# EAGLE library part IF_ETH_PHY_YT8531C-CA (library !GPLIB_ACTIVE)
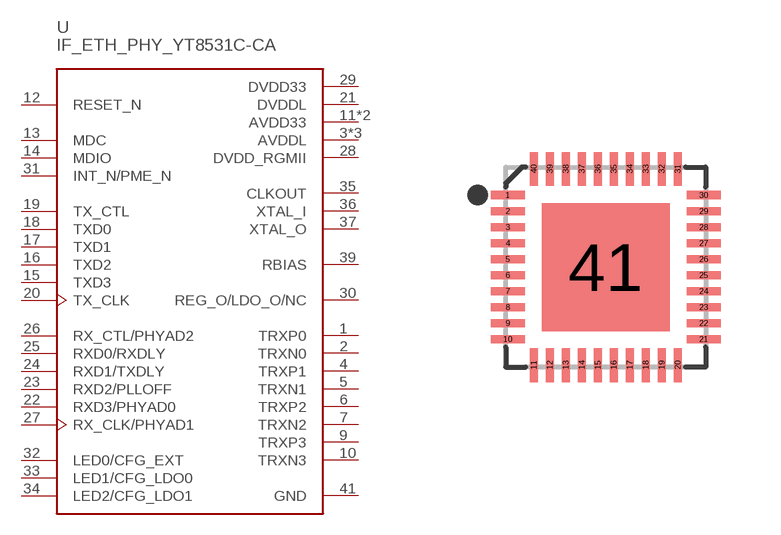
[diagram p23: symbol with the pads of QFN40P500X500X75-41N; footprint QFN40P500X500X75-41N]

Designator prefix U

## IF_ETH_PHY_YT8531C-CA  [QFN40P500X500X75-41N]
1  TRXP0  in
2  TRXN0  out
3  AVDDL  pwr
4  TRXP1  in
5  TRXN1  out
6  TRXP2  in
7  TRXN2  out
8  AVDDL  pwr
9  TRXP3  in
10  TRXN3  out
11  AVDD33  pwr
12  RESET_N  in
13  MDC  in
14  MDIO
15  TXD3  in
16  TXD2  in
17  TXD1  in
18  TXD0  in
19  TX_CTL  in
20  TX_CLK  in
21  DVDDL  pwr
22  RXD3/PHYAD0
23  RXD2/PLLOFF
24  RXD1/TXDLY
25  RXD0/RXDLY
26  RX_CTL/PHYAD2  in
27  RX_CLK/PHYAD1
28  DVDD_RGMII  out
29  DVDD33  out
30  REG_O/LDO_O/NC  out
31  INT_N/PME_N
32  LED0/CFG_EXT
33  LED1/CFG_LDO0
34  LED2/CFG_LDO1
35  CLKOUT  out
36  XTAL_I  in
37  XTAL_O  out
38  AVDDL  pwr
39  RBIAS  out
40  AVDD33  pwr
41  GND  pwr

## Footprint QFN40P500X500X75-41N (pad centres in mm)
smd 0.85 x 0.2: 1 -2.45,1.8; 2 -2.45,1.4; 3 -2.45,1; 4 -2.45,0.6; 5 -2.45,0.2; 6 -2.45,-0.2; 7 -2.45,-0.6; 8 -2.45,-1; 9 -2.45,-1.4; 10 -2.45,-1.8; 21 2.45,-1.8; 22 2.45,-1.4; 23 2.45,-1; 24 2.45,-0.6; 25 2.45,-0.2; 26 2.45,0.2; 27 2.45,0.6; 28 2.45,1; 29 2.45,1.4; 30 2.45,1.8
smd 0.2 x 0.85: 11 -1.8,-2.45; 12 -1.4,-2.45; 13 -1,-2.45; 14 -0.6,-2.45; 15 -0.2,-2.45; 16 0.2,-2.45; 17 0.6,-2.45; 18 1,-2.45; 19 1.4,-2.45; 20 1.8,-2.45; 31 1.8,2.45; 32 1.4,2.45; 33 1,2.45; 34 0.6,2.45; 35 0.2,2.45; 36 -0.2,2.45; 37 -0.6,2.45; 38 -1,2.45; 39 -1.4,2.45; 40 -1.8,2.45
smd 3.2 x 3.2: 41 0,0